# Altium integrated library nucleo.IntLib: 35 symbols
Pins are listed as number, name and electrical type; pins without a type are passive.

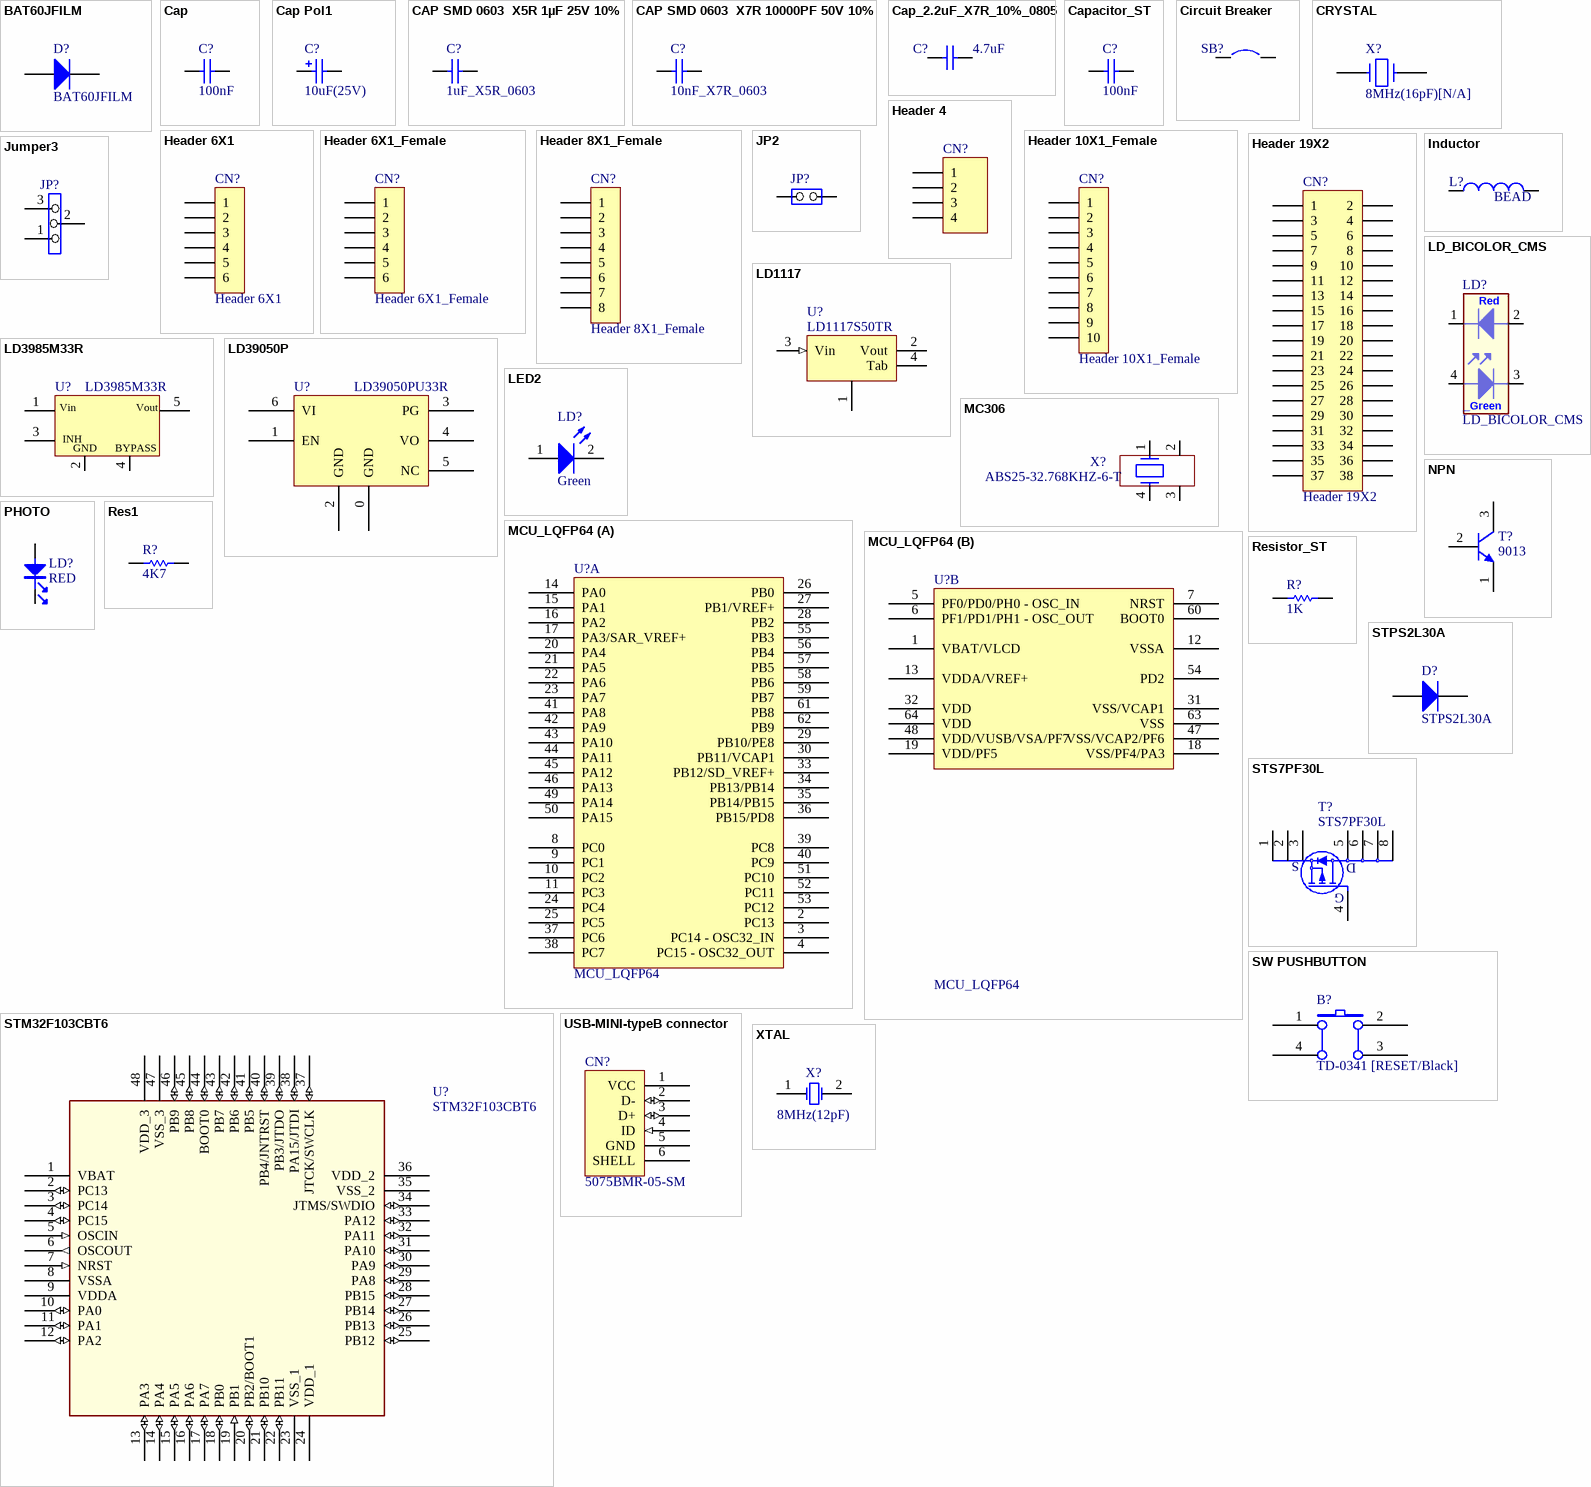
[diagram p0: symbols BAT60JFILM to XTAL]

## BAT60JFILM
designator D?
Manuf_1: STM; Provided: ST; ECCN_US/EU: EAR99/NEC; Revision: July-2002: Re-released for DXP Platform.; Order: BAT60JFILM; Manuf_Part_1: BAT60JFILM; Distrib: ST
footprint DSO-C2/X3.3 (DO-214-AB/SMC; 2 C-Bend Leads; Body 7.9 x 5.9 mm, inc. leads (LxW))
simulation model DIODE (Diode)
signal-integrity model Diode
footprint SOD323/A
pins: 1 A, 2 K

## Cap
designator C?, comment 100nF
Capacitor; Value: 10nF; Published: 8-Jun-2000; Revision: July-2002: Re-released for DXP Platform.; Publisher: Altium Limited
simulation model CAP (Capacitor)
signal-integrity model Cap
footprint 0603 (Footprint not found)
footprint 0603C (Footprint not found)
pins: 1, 2

## Cap Pol1
designator C?, comment 10uF(25V)
Polarized Capacitor (Radial); Published: 8-Jun-2000; Revision: July-2002: Re-released for DXP Platform.; Publisher: Altium Limited; Value: 10uF
simulation model CAP (Capacitor)
signal-integrity model C200M
footprint 3528 (Footprint not found)
footprint TAN-B
footprint TAN-A
pins: 1, 2

## CAP SMD 0603  X5R 1µF 25V 10%
designator C?, comment 1uF_X5R_0603
0603  X5R 1µF; Rated voltage: 25V; Tolerance: 10%; Manufacturer: *; Manufacturer P/N: *; Order code Farnell: 1288202RL; Value: 1µF; Power: *; Technology: X5R; Temperature  Factor: *; Temperature Max: +125°C; Temperature Min: -55°C; STS Code: *
footprint 0603C (Footprint not found)
3D model 0603_0_0000_R (PCB3D Model)
simulation model Capacitor
signal-integrity model Capacitor
pins: 1, 2

## CAP SMD 0603  X7R 10000PF 50V 10%
designator C?, comment 10nF_X7R_0603
0603  X7R 10NF; Order code RS: 2040779; Rated voltage: 50V; Tolerance: 10%; Order code Farnell: 7569548RL; Value: 10NF; Power: *; Technology: X7R; Temperature Factor: *; Temperature Min: -55°C; Temperature Max: +125°C; STS Code: *
footprint 0603C (Footprint not found)
3D model 0603_0_0000_R (PCB3D Model)
simulation model Capacitor
signal-integrity model Capacitor
pins: 1, 2

## Cap_2.2uF_X7R_10%_0805
designator C?, comment 4.7uF
Capacitor,4.7uF,25V, X7R,10%,1206,YAGEO; Manuf_Part_1: CC0805KKX7R7BB225; Value: 2.2uF; Revision: July-2002: Re-released for DXP Platform.; Order: CC0805KKX7R7BB225; Manuf_1: YAGEO
simulation model CAP (Capacitor)
signal-integrity model Cap
footprint 0805C
footprint TAN-A
pins: 1, 2

## Capacitor_ST
designator C?, comment 100nF
Capacitor 0402 / 0603 / 0805; Revision: July-2002: Re-released for DXP Platform.; Value: 100nF
simulation model CAP (Capacitor)
signal-integrity model Cap
footprint 0603C
footprint 0402C
footprint 0805C (Footprint not found)
pins: 1, 2

## Circuit Breaker
designator SB?  (value not drawn)
Solder: NO; Published: 24-Mar-1999; Revision: July-2002: Re-released for DXP Platform.; Publisher: Altium Limited
footprint SPST-2 (Circuit Breaker; 2 Leads)
footprint JP2_SMD
pins: 1, 2

## CRYSTAL
designator X?, comment 8MHz(16pF)[N/A]
Crystal
footprint XTAL1 (Footprint not found)
footprint XTAL_socket
pins: 1, 2
2 alternate drawings of the same symbol

## Header 4
designator CN?  (value not drawn)
Header, 4-Pin, Single row; Revision: 17-Jul-2002: Re-released for DXP Platform.; Publisher: Altium Limited
signal-integrity model Connector
footprint 1*4 (Footprint not found)
pins: 1, 2, 3, 4

## Header 6X1
designator CN?
Header, 6-Pin, Single row; LatestRevisionDate: 17-Jul-2002; LatestRevisionNote: Re-released for DXP Platform.; Publisher: Altium Limited
footprint HDR2X17 (Connector; Header; 17x2 Position)
signal-integrity model Connector
footprint 1*6P (Footprint not found)
pins: 1, 2, 3, 4, 5, 6

## Header 6X1_Female
designator CN?
Header, 6-Pin, Single row,female; LatestRevisionDate: 17-Jul-2002; LatestRevisionNote: Re-released for DXP Platform.; Publisher: Altium Limited
footprint HDR2X17 (Connector; Header; 17x2 Position)
signal-integrity model Connector
footprint 1*6P_FEMALE (Footprint not found)
pins: 1, 2, 3, 4, 5, 6

## Header 8X1_Female
designator CN?
Header, 8-Pin, Single row,female; LatestRevisionDate: 17-Jul-2002; LatestRevisionNote: Re-released for DXP Platform.; Publisher: Altium Limited
footprint HDR2X17 (Connector; Header; 17x2 Position)
signal-integrity model Connector
footprint 1*8P_FEMALE (Footprint not found)
pins: 1, 2, 3, 4, 5, 6, 7, 8

## Header 10X1_Female
designator CN?
Header, 10-Pin, Single row,female; LatestRevisionDate: 17-Jul-2002; LatestRevisionNote: Re-released for DXP Platform.; Publisher: Altium Limited
footprint HDR2X17 (Connector; Header; 17x2 Position)
signal-integrity model Connector
footprint 1*10P_FEMALE (Footprint not found)
pins: 1, 2, 3, 4, 5, 6, 7, 8, 9, 10

## Header 19X2
designator CN?
Header, 19-Pin, Dual row; Revision: 17-Jul-2002: Re-released for DXP Platform.; Publisher: Altium Limited
footprint 2*19P (Footprint not found)
signal-integrity model Connector
footprint HDR_2X26_2R54 (Footprint not found)
pins: 1, 2, 3, 4, 5, 6, 7, 8, 9, 10, 11, 12, 13, 14, 15, 16, 17, 18, 19, 20, 21, 22, 23, 24, 25, 26, 27, 28, 29, 30, 31, 32, 33, 34, 35, 36, 37, 38

## Inductor
designator L?, comment BEAD
Inductor; Value: 100uH; Published: 8-Jun-2000; Revision: July-2002: Re-released for DXP Platform.; Publisher: Altium Limited
footprint 0603 (Footprint not found)
footprint 0603C
footprint 0603L
pins: 1, 2

## JP2
designator JP?
footprint SIP2/2.54
pins: 1 COMMON, 2 NO

## Jumper3
designator JP?
footprint SIP3 (Footprint not found)
pins: 1, 2, 3

## LD1117
designator U?, comment LD1117S50TR
footprint SOT-223
pins: 1, 2 Vout (power), 3 Vin (in), 4 Tab (power)
2 alternate drawings of the same symbol

## LD3985M33R
designator U?
Ultra low drop-low noise BiCMOS voltage, regulators low ESR capacitors compatible; Manuf_1: STM; Provided: ST; Ref St: 9176161; ECCN_US/EU: EAR99/NEC; Manuf_Part_1: LD3985M33R; Distrib: ST; Order: LD3985M33R
footprint SOT-23-5L
pins: 1 Vin, 2 GND, 3 CE, 4 BYPASS, 5 Vout
text: INH

## LD39050P
designator U?, comment LD39050PU33R
footprint DFN6
footprint DFN6(3X3)
pins: 0 GND, 1 EN, 2 GND, 3 PG, 4 VO, 5 NC, 6 VI
2 alternate drawings of the same symbol

## LD_BICOLOR_CMS
designator LD?
Bicolor Led; Manuf_Part_1: HSMF-A201-A00J1; Manuf_1: Avago Technologies; Ref St: xxxxxx; cap_dec: ----; Distrib: RADIOSPARES; Footprint: HSMF-A201
footprint HSMF-A201
pins: 1, 2, 3, 4
text: Red; _Green

## LED2
designator LD?, comment Green
Typical RED, GREEN, YELLOW, AMBER GaAs LED; Published: 8-Jun-2000; Revision: July-2002: Re-released for DXP Platform.; Publisher: Altium Limited
footprint D0603 (Footprint not found)
footprint 0603D
pins: 1 A, 2 K

## MC306
designator X?, comment ABS25-32.768KHZ-6-T
footprint SM8 (Footprint not found)
footprint XTAL_4SM_8X3R8 (Footprint not found)
pins: 1, 2, 3, 4

## MCU_LQFP64
designator U?
footprint LQFP64 (Footprint not found)
part A pins: 2 PC13, 3 PC14 - OSC32_IN, 4 PC15 - OSC32_OUT, 8 PC0, 9 PC1, 10 PC2, 11 PC3, 14 PA0, 15 PA1, 16 PA2, 17 PA3/SAR_VREF+, 20 PA4, 21 PA5, 22 PA6, 23 PA7, 24 PC4, 25 PC5, 26 PB0, 27 PB1/VREF+, 28 PB2, 29 PB10/PE8, 30 PB11/VCAP1, 33 PB12/SD_VREF+, 34 PB13/PB14, 35 PB14/PB15, 36 PB15/PD8, 37 PC6, 38 PC7, 39 PC8, 40 PC9, 41 PA8, 42 PA9, 43 PA10, 44 PA11, 45 PA12, 46 PA13, 49 PA14, 50 PA15, 51 PC10, 52 PC11, 53 PC12, 55 PB3, 56 PB4, 57 PB5, 58 PB6, 59 PB7, 61 PB8, 62 PB9
part B pins: 1 VBAT/VLCD, 5 PF0/PD0/PH0 - OSC_IN, 6 PF1/PD1/PH1 - OSC_OUT, 7 NRST, 12 VSSA, 13 VDDA/VREF+, 18 VSS/PF4/PA3, 19 VDD/PF5, 31 VSS/VCAP1, 32 VDD, 47 VSS/VCAP2/PF6, 48 VDD/VUSB/VSA/PF7, 54 PD2, 60 BOOT0, 63 VSS, 64 VDD

## NPN
designator T?, comment 9013
NPN Bipolar Transistor; Code - JEDEC: TO-226-AA; Published: 8-Jun-2000; Revision: July-2002: Re-released for DXP Platform.; Publisher: Altium Limited
footprint BCY-W3 (TO, Flat Index; 3 In-Line, Axial Leads; Body Dia. 4.8mm)
simulation model NPN
signal-integrity model NPN
footprint SOT-23
pins: 1 E, 2 B, 3 C

## PHOTO
designator LD?, comment RED
footprint D0603
footprint 0603D
pins: 1, 2
2 alternate drawings of the same symbol

## Res1
designator R?, comment 4K7
Resistor; Value: 1K; Published: 8-Jun-2000; Revision: July-2002: Re-released for DXP Platform.; Publisher: Altium Limited
footprint AXIAL-0.3
footprint 0603
footprint 0603R
footprint 0402R
pins: 1, 2
2 alternate drawings of the same symbol

## Resistor_ST
designator R?, comment 1K
Resistor 0402 / 0603 / 0805; Value: 10K
footprint 0402R
footprint 0603R
footprint 0805R (Footprint not found)
footprint 0603R-GS
pins: 1, 2

## STM32F103CBT6
designator U?
Medium-density performance line ARM-based 32-bit MCU with 64KB Flash; Manuf_Part_1: STM32F103C8T6; Manuf_1: STM; Ref St: 9175981; Provided: ST; ECCN_US/EU: 3A991A2/NEC; Footprint: QFP48 7X7; Distrib: ST; Order: STM32F103C8T6
footprint QFP48 7X7 (Footprint not found)
pins: 1 VBAT (power), 2 PC13 (io), 3 PC14 (io), 4 PC15 (io), 5 OSCIN (in), 6 OSCOUT (out), 7 NRST (in), 8 VSSA (power), 9 VDDA (power), 10 PA0 (io), 11 PA1 (io), 12 PA2 (io), 13 PA3 (io), 14 PA4 (io), 15 PA5 (io), 16 PA6 (io), 17 PA7 (io), 18 PB0 (io), 19 PB1 (in), 20 PB2/BOOT1 (io), 21 PB10 (io), 22 PB11 (io), 23 VSS_1 (power), 24 VDD_1 (power), 25 PB12 (io), 26 PB13 (io), 27 PB14 (io), 28 PB15 (io), 29 PA8 (io), 30 PA9 (io), 31 PA10 (io), 32 PA11 (io), 33 PA12 (io), 34 JTMS/SWDIO (io), 35 VSS_2 (power), 36 VDD_2 (power), 37 JTCK/SWCLK (io), 38 PA15/JTDI (io), 39 PB3/JTDO (io), 40 PB4/JNTRST (io), 41 PB5 (io), 42 PB6 (io), 43 PB7 (io), 44 BOOT0 (io), 45 PB8 (io), 46 PB9 (io), 47 VSS_3 (power), 48 VDD_3 (power)

## STPS2L30A
designator D?
Manuf_1: STM; Provided: ST; Order: BAT60JFILM; ECCN_US/EU: EAR99/NEC; Revision: July-2002: Re-released for DXP Platform.; Manuf_Part_1: BAT60JFILM; Distrib: ST
footprint SMA (Footprint not found)
pins: 1 A, 2 K

## STS7PF30L
designator T?
footprint Model Name (Footprint not found)
footprint SOT23-6L
footprint SO8 (Footprint not found)
pins: 1 S, 2 S, 3 S, 4 G, 5 D, 6 D, 7 D, 8 D

## SW PUSHBUTTON
designator B?, comment TD-0341 [RESET/Black]
SE PUSHBUTTON
footprint PB (Footprint not found)
footprint PB10
footprint BP1CMS
pins: 1 A0, 2 B0, 3 B1, 4 A1

## USB-MINI-typeB connector
designator CN?, comment 5075BMR-05-SM
USB-MINI-typeB connector; Manuf_Part_1: 5075BMR-05-SM; Order: 5075BMR-05-SM; ECCN: ????
footprint USB-MINI-B-SMD
footprint USB-B
pins: 1 VCC (power), 2 D- (io), 3 D+ (io), 4 ID (in), 5 GND (power), 6 SHELL (power)
2 alternate drawings of the same symbol

## XTAL
designator X?, comment 8MHz(12pF)
Crystal Oscillator; Published: 8-Jun-2000; LatestRevisionDate: 17-Jul-2002; LatestRevisionNote: Re-released for DXP Platform.; PackageReference: R38; Publisher: Altium Limited
footprint R38
footprint XTAL1
pins: 1 OSC1, 2 OSC2
2 alternate drawings of the same symbol